# Altium integrated library SDA02H1SBD.IntLib: 1 symbol
Pins are listed as number, name and electrical type; pins without a type are passive.

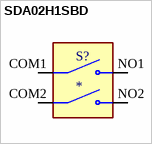
[diagram p0: symbol SDA02H1SBD]

## SDA02H1SBD
designator S?
Dip Switch SPST 2 Position Surface Mount Slide (Standard) Actuator 25mA 24VDC; MP: SDA02H1SBD; MF: C&K; Availability: Good; Purchase-URL: https://pricing.snapeda.com/search/part/SDA02H1SBD/?ref=eda; Package: None; Check_prices: https://www.snapeda.com/parts/SDA02H1SBD/C&K/view-part/380509/?ref=eda; Value: *; SnapEDA_Link: https://www.snapeda.com/parts/SDA02H1SBD/C&K/view-part/380509/?ref=snap; Price: None
footprint SW_SDA02H1SBD
pins: COM1, COM2, NO1, NO2